# EAGLE library part LT4356?-* (library ic-LT)
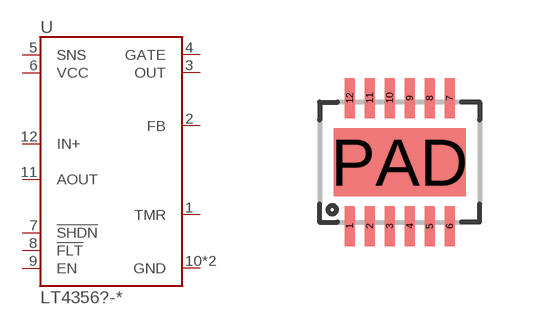
[diagram p6: symbol with the pads of DFN12; footprint DFN12]

Designator prefix U

## LT4356DE-1, LT4356DE-2, LT4356DE-3  [DFN12]
1  TMR
2  FB
3  OUT
4  GATE
5  SNS
6  VCC
7  !SHDN
8  !FLT
9  EN
10  GND
11  AOUT
12  IN+
PAD  GND

## Footprint DFN12 (pad centres in mm)
smd 0.25 x 1: 1 -1.25,-1.6; 2 -0.75,-1.6; 3 -0.25,-1.6; 4 0.25,-1.6; 5 0.75,-1.6; 6 1.25,-1.6; 7 1.25,1.6; 8 0.75,1.6; 9 0.25,1.6; 10 -0.25,1.6; 11 -0.75,1.6; 12 -1.25,1.6
smd 3.3 x 1.7: PAD 0,0